# Altium schematic symbol library default.SchLib: 24 symbols
Pins are listed as number, name and electrical type; pins without a type are passive.

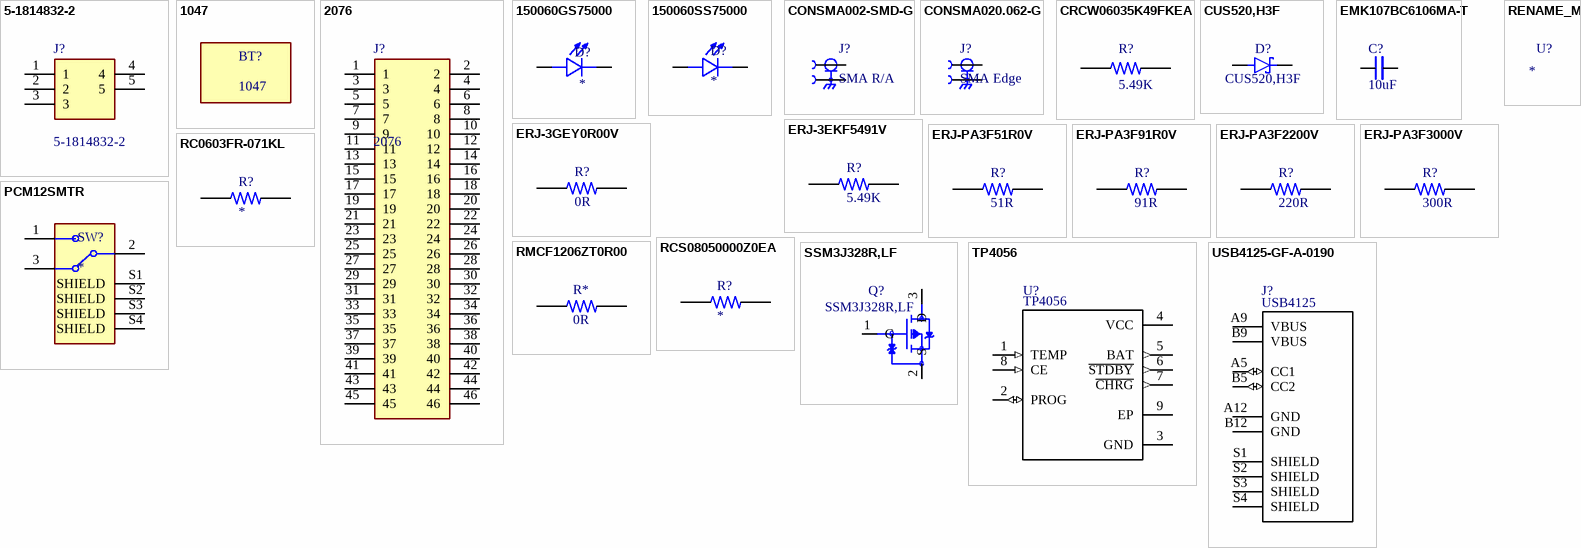
[diagram p0: symbols 5-1814832-2 to USB4125-GF-A-0190]

## 5-1814832-2
designator J?
SMA Connector Jack, Female Socket 50 Ohms Through Hole Solder; Manufacturer_Name: TE Connectivity; Geometry.Height: 9.5mm; Mouser Part Number: 571-5-1814832-2; Mouser Price/Stock: https://www.mouser.co.uk/ProductDetail/TE-Connectivity/5-1814832-2?qs=Cb2nCFKsA8rPOrkEMAAQ4A%3D%3D; Manufacturer_Part_Number: 5-1814832-2; Datasheet Link: https://www.te.com/commerce/DocumentDelivery/DDEController?Action=srchrtrv&DocNm=1-1773725-8_RF_COAX_QRG&DocType=Data%20Sheet&DocLang=English&PartCntxt=5-1814832-2&DocFormat=pdf
footprint 5-1814832-2 (SMA STR PCB SKT GZD)
pins: 1, 2, 3, 4, 5

## 1047
designator BT?
18650 Dual Battery Holder; Package: None; Price: None; Value: *; MP: 1047; Availability: Unavailable; Supplier 1: Digikey; Supplier Part Number 1: 36-1047-ND
footprint BAT_1047

## 2076
designator J?
Adafruit Accessories 2x23 Male Headers for BeagleBone Black - Two Pack; Geometry.Height: 8.74mm; Mouser Part Number: 485-2076; Mouser Price/Stock: https://www.mouser.co.uk/ProductDetail/Adafruit/2076?qs=GURawfaeGuBAvD7rncVFUg%3D%3D; Manufacturer_Name: Adafruit; Manufacturer_Part_Number: 2076; Datasheet Link: https://cdn-shop.adafruit.com/datasheets/16188.pdf
footprint HDRV46W64P254_2X23_5842X500X874P
pins: 1, 2, 3, 4, 5, 6, 7, 8, 9, 10, 11, 12, 13, 14, 15, 16, 17, 18, 19, 20, 21, 22, 23, 24, 25, 26, 27, 28, 29, 30, 31, 32, 33, 34, 35, 36, 37, 38, 39, 40, 41, 42, 43, 44, 45, 46

## 150060GS75000
designator D?
Green 520nm LED Indication - Discrete 3.2V 0603 (1608 Metric); MF: Wurth Electronics; MP: 150060GS75000; SnapEDA_Link: https://www.snapeda.com/parts/150060GS75000/Wurth%20Electronics%20Inc./view-part/548131/?ref=snap; Availability: Warning; Price: None; Value: *; DigiKey-Purchase-URL: https://snapeda.com/shop?store=DigiKey&id=548131; Mouser-Purchase-URL: https://snapeda.com/shop?store=Mouser&id=548131; Package: 0603 WÃ¼rth Elektronik; Supplier 1: Digikey; Supplier Part Number 1: 732-4971-1-ND
footprint LEDC1608X80N
pins: A, C

## 150060SS75000
designator D?
Red 630nm LED Indication - Discrete 1.9V 0603 (1608 Metric)  <a href="https://pricing.snapeda.com/parts/150060SS75000/W%C3%BCrth%20Elektronik/view-part?ref=eda">Check availability</a>; MF: {'manufacturer': u'Wurth Electronics'}; Package: None; Price: None; Value: *; MP: 150060SS75000; Availability: Unavailable; Supplier 1: Digikey; Supplier Part Number 1: 732-4979-1-ND
footprint LED_150060SS75000
pins: A, C

## CONSMA002-SMD-G
designator J?, comment SMA R/A
CONN SMA RCPT R/A 50 OHM SMD; MP: CONSMA002-SMD-G; Package: None; Price: None; Value: *; Availability: Unavailable
footprint TE_CONSMA002-SMD-G
pins: 1 SIG, 2 SH (power), 3 SH (power)

## CONSMA020.062-G
designator J?, comment SMA Edge
SMA Jack 50 Ohm .062 PCB Edge Mount; MF: TE Connectivity; MP: L9000279-01; SnapEDA_Link: https://www.snapeda.com/parts/L9000279-01/TE+Connectivity/view-part/?ref=snap; Package: None; Value: *; Check_prices: https://www.snapeda.com/parts/L9000279-01/TE+Connectivity/view-part/?ref=eda
footprint LINX_CONSMA020.062-G
pins: 1, S1 2, S2 2, S3 2, S4 2

## CRCW06035K49FKEA
designator R?, comment 5.49K
RES SMD 5.49K OHM 1% 1/20W 0201; MP: CRCW02015K49FKED; Package: None; Price: None; Value: *; Availability: Unavailable; Supplier 1: Mouser; Supplier Part Number 1: 71-CRCW0603-5.49K-E3
pins: 1, 2

## CUS520,H3F
designator D?
Diode Schottky 30V 200mA Surface Mount USC; MF: Toshiba Semiconductor; Value: *; MP: CUS520,H3F; Price: None; Availability: Unavailable; Package: SOD-323 Toshiba; SnapEDA_Link: https://www.snapeda.com/parts/CUS520,H3F/Toshiba%20Semiconductor%20and%20Storage/view-part/638889/?ref=snap
footprint CUS520,H3F
pins: A, C

## EMK107BC6106MA-T
designator C?, comment 10uF
CAP CER 10UF 16V X6S 0603; MP: EMK107BC6106MA-T; Package: None; Price: None; Value: *; Availability: Unavailable
footprint EMK107BC6106MA-T
pins: 1, 2

## ERJ-3EKF5491V
designator R?, comment 5.49K
RES SMD 5.49K OHM 1% 1/10W 0603; MP: ERJPA3F51R0V; Price: None; Value: *; Availability: Unavailable; Package: None; Supplier 1: Mouser; Supplier Part Number 1: 667-ERJ-3EKF5491V
footprint ERJ-PA3F51R0V
pins: 1, 2

## ERJ-3GEY0R00V
designator R?, comment 0R
RES SMD 0 OHM JUMPER 1/10W 0603; MP: ERJPA3F51R0V; Price: None; Value: *; Availability: Unavailable; Package: None; Supplier 1: Mouser; Supplier Part Number 1: 667-ERJ-3GEY0R00V
footprint ERJ-PA3F51R0V
pins: 1, 2

## ERJ-PA3F51R0V
designator R?, comment 51R
RES SMD 51 OHM 1% 1/3W 0603; MP: ERJPA3F51R0V; Price: None; Value: *; Availability: Unavailable; Package: None; Supplier 1: Digikey; Supplier Part Number 1: P51.00BYCT-ND
footprint ERJ-PA3F51R0V
pins: 1, 2

## ERJ-PA3F91R0V
designator R?, comment 91R
RES SMD 91 OHM 1% 1/3W 0603; MP: ERJPA3F91R0V; Price: None; Availability: Unavailable; Value: *; Package: None; Supplier 1: Digikey; Supplier Part Number 1: P91.00BYCT-ND
footprint ERJ-PA3F91R0V
pins: 1, 2

## ERJ-PA3F2200V
designator R?, comment 220R
RES SMD 220 OHM 1% 1/3W 0603; MP: ERJPA3F51R0V; Price: None; Value: *; Availability: Unavailable; Package: None; Supplier 1: Mouser; Supplier Part Number 1: 667-ERJ-PA3F2200V
footprint ERJ-PA3F51R0V
pins: 1, 2

## ERJ-PA3F3000V
designator R?, comment 300R
RES SMD 300 OHM 1% 1/3W 0603; MP: ERJPA3F51R0V; Price: None; Value: *; Availability: Unavailable; Package: None; Supplier 1: Mouser; Supplier Part Number 1: 667-ERJ-PA3F3000V
footprint ERJ-PA3F51R0V
pins: 1, 2

## PCM12SMTR
designator SW?
Slide Switch SPDT Surface Mount, Right Angle; MF: C&K; MP: PCM12SMTR; Price: None; Package: None; Purchase-URL: https://pricing.snapeda.com/search/part/PCM12SMTR/?ref=eda; Availability: In Stock; SnapEDA_Link: https://www.snapeda.com/parts/PCM12SMTR/C%2526K/view-part/?ref=snap; Value: *; Check_prices: https://www.snapeda.com/parts/PCM12SMTR/C%2526K/view-part/?ref=eda; Supplier 1: Mouser; Supplier Part Number 1: 611-PCM12SMTR
footprint SW_PCM12SMTR
pins: 1, 2, 3, S1 SHIELD, S2 SHIELD, S3 SHIELD, S4 SHIELD

## RC0603FR-071KL
designator R?
1 kOhms Â±1% 0.1W, 1/10W Chip Resistor 0603 (1608 Metric) Moisture Resistant Thick Film; MF: Yageo; MP: RC0603FR-071KL; SnapEDA_Link: https://www.snapeda.com/parts/RC0603FR-071KL/Yageo/view-part/?ref=snap; Package: 0603 Yageo; Value: *; Check_prices: https://www.snapeda.com/parts/RC0603FR-071KL/Yageo/view-part/?ref=eda; Supplier 1: Digikey; Supplier Part Number 1: 311-1.00KHRCT-ND
footprint RESC1607X60N
pins: 1, 2

## RCS08050000Z0EA
designator R?
RES SMD 0 OHM JUMPER 1/2W 0805; MF: Vishay Dale; MP: RCS08050000Z0EA; Package: 2012 Vishay; Check_prices: https://www.snapeda.com/parts/RCS08050000Z0EA/Vishay%20Dale/view-part/922781/?ref=eda; Digi-Key_Part_Number: 541-2827-1-ND; Value: *; Purchase-URL: https://pricing.snapeda.com/search/part/RCS08050000Z0EA/?ref=eda; SnapEDA_Link: https://www.snapeda.com/parts/RCS08050000Z0EA/Vishay%20Dale/view-part/922781/?ref=snap
footprint RESC2012X50N
pins: 1, 2

## RENAME_ME
designator U?

## RMCF1206ZT0R00
designator R*, comment 0R
RES 0 OHM JUMPER 1/4W 1206
footprint RESC3216X70N
pins: 1, 2

## SSM3J328R,LF
designator Q?
P-Channel 20V 6A _Ta_ 1W _Ta_ Surface Mount SOT-23F; MF: Toshiba; MP: SSM3J328R,LF; SnapEDA_Link: https://www.snapeda.com/parts/SSM3J328R,LF/Toshiba%20Semiconductor%20and%20Storage/view-part/214715/?ref=snap; Availability: Unavailable; Package: SOT-23 Toshiba; Value: *; Price: None
footprint SSM3J328R,LF
pins: 1 G, 2 S, 3 D

## TP4056
designator U?
Complete single cell Li-Ion battery with a constant current / constant voltage linear charger; MF: NanJing Top Power ASIC Corp.; Check_prices: https://www.snapeda.com/parts/TP4056/NanJing+Top+Power+ASIC+Corp./view-part/?ref=eda; SnapEDA_Link: https://www.snapeda.com/parts/TP4056/NanJing+Top+Power+ASIC+Corp./view-part/?ref=snap; Price: None; Availability: Not in stock; Package: Package; MP: TP4056; Value: *
footprint TP4056
pins: 1 TEMP (in), 2 PROG (io), 3 GND (power), 4 VCC (power), 5 BAT (out), 6 ~{STDBY} (out), 7 ~{CHRG} (out), 8 CE (in), 9 EP

## USB4125-GF-A-0190
designator J?, comment USB4125
Type C Receptacle, Horizontal, SMT, For Power Charging Only; MF: Global Connector Technology; MP: USB4125-GF-A-0190; Price: None; Check_prices: https://www.snapeda.com/parts/USB4125-GF-A-0190/Global%20Connector%20Technology/view-part/6227012/?ref=eda; Package: None; Value: *; SnapEDA_Link: https://www.snapeda.com/parts/USB4125-GF-A-0190/Global%20Connector%20Technology/view-part/6227012/?ref=snap; Availability: No availability data
footprint USB4125-GF-A-0190 (USB C CONNECTOR)
pins: A5 CC1 (io), A9 VBUS (power), A12 GND (power), B5 CC2 (io), B9 VBUS (power), B12 GND (power), S1 SHIELD, S2 SHIELD, S3 SHIELD, S4 SHIELD